# Altium integrated library TI Power Management DC-DC Controller (External Switch).IntLib: 349 symbols (part 5 of 28)
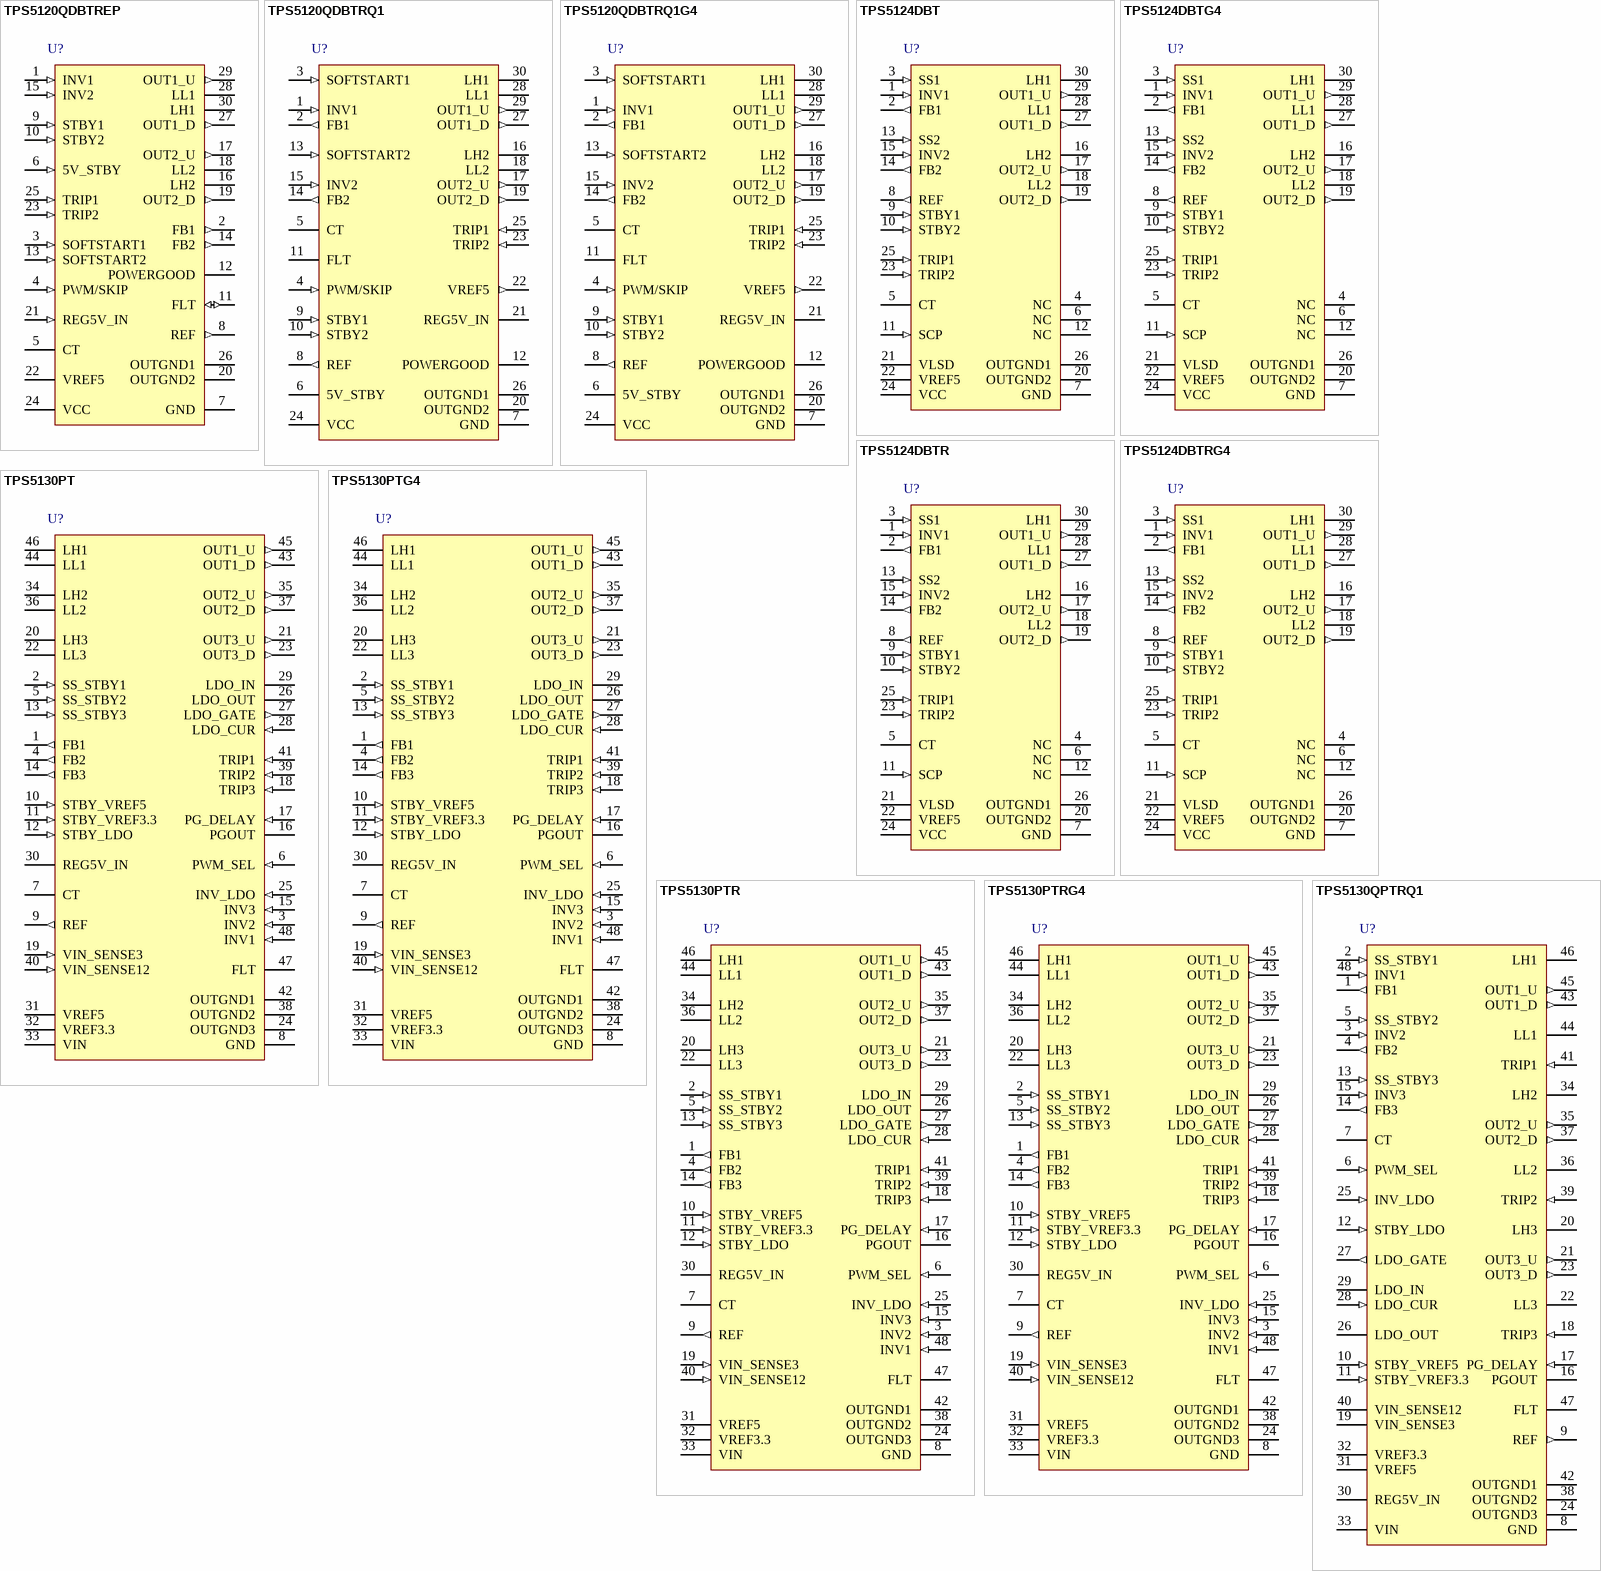
[diagram p18: symbols TPS5120QDBTREP to TPS5130QPTRQ1]

## TPS5124DBTRG4
designator U?
Dual Channel Synchronous Step-Down PWM Controller, 80 % Duty Cycle, 4.5 to 15 V, -40 to 85 degC, 30-pin TSSOP (DBT), Green (RoHS & no Sb/Br); Manufacturer: Texas Instruments; PartNumber: TPS5124DBTRG4; Duty Cycle(Max)(%): 80; Iout(Max)(A): 20; Regulated Outputs(#): 2; SubFamily: Multiple-Output Switching Controller; Switching Frequency(Max)(kHz): 500; Synchronous Rectification: TRUE; Topology: Buck; Vin(Max)(V): 15; Vin(Min)(V): 4.5; Vout(Max)(V): 12; Vout(Min)(V): 0.9; DatasheetVersion: SLUS571; PackageVersion: Sep-2005; PackageReference: DBT30; PackageDescription: 30-Pin Thin Shrink Small Outline Package 0.5 mm Pitch; Supplier 1: Digi-Key; Supplier Part Number 1: TPS5124DBTRG4-ND; Supplier 2: Newark; Supplier Part Number 2: 24K5980; Supplier 3: Mouser; Supplier Part Number 3: 595-TPS5124DBTRG4; Eco-Plan: Green (RoHS & no Sb/Br); Iout2(A): 20; Vout2(Max)(V): 12; Vout2(Min)(V): 0.9; Mounting Technology: Surface Mount; Code_JEDEC: MO-153; ComponentLink1Description: Datasheet; ComponentLink1URL: http://www.ti.com/general/docs/lit/getliterature.tsp?genericPartNumber=TPS5124&fileType=pdf; ComponentLink2Description: Package Specification; ComponentLink2URL: http://www.ti.com/litv/pdf/mpds019h
footprint DBT30_N (TSSOP, 30-Leads, Body 7.8x4.4mm, Pitch 0.5mm, IPC Medium Density)
footprint DBT30_L (TSSOP, 30-Leads, Body 7.8x4.4mm, Pitch 0.5mm, IPC High Density)
footprint DBT30_M (TSSOP, 30-Leads, Body 7.8x4.4mm, Pitch 0.5mm, IPC Low Density)
pins: 1 INV1 (in) "Inverting inputs of Channel 1 error amplifier and OVP1/UVP1 comparator.", 2 FB1 (out) "Feedback output of SBRC-Channel 1 error amplifier.", 3 SS1 (in) "Soft start control for Channel 1. Connect an external capacitor between this pin and GND to specify SOFTSTART time.", 4 NC "No connection.", 5 CT "External capacitor from CT to GND adjusts frequency of the triangle oscillator.", 6 NC "No connection.", 7 GND (power) "Signal GND.", 8 REF (out) "0.85-V reference voltage output. This 0.85-V reference voltage is used to set the output voltage and the reference for the overvoltage and undervoltage protections. This reference voltage is dropped down from the internal (See Datasheet)", 9 STBY1 (in) "Standby control input for Channel 1. It can be switched into standby mode by grounding the STBY1 pin.", 10 STBY2 (in) "Standby control input for Channel 2. It can be switched into standby mode by grounding the STBY2 pin.", 11 SCP (in) "Fault latch timer pin. An external capacitor connected between SCP and GND sets SCP enable time up.", 12 NC "No connection.", 13 SS2 (in) "Soft start control for Channel 2. Connect an external capacitor between this pin and GND to specify SOFTSTART time.", 14 FB2 (out) "Feedback output of SBRC-Channel 2 error amplifier.", 15 INV2 (in) "Inverting inputs of Channel 2 error amplifier and OVP2/UVP2 comparator.", 16 LH2 (power) "Bootstrap capacitor connection for Channel 2 high-side gate driver.", 17 OUT2_U (out) "Gate drive output for Channel 2 high-side MOSFETs.", 18 LL2 (power) "CH2 high-side gate driving return. Connect this pin to the junction of the high-side and low-side MOSFETs for floating drive configuration. This pin is also an input terminal for current comparator.", 19 OUT2_D (out) "Gate drive output for Channel 2 low-side MOSFETs.", 20 OUTGND2 (power) "Ground for Channel 2 MOSFET drivers.", 21 VLSD (power) "Supply voltage input for low side driver. Typically connected to VREF5 with R-C filter when VVCC is between 6.5V and 15V and connected to VCC with filter when VVCC is between 4.5 V and 5.5 V.", 22 VREF5 (power) "5V linear regulator output. When VVCC is between 4.5V and 5.5V should be connected to VCC.", 23 TRIP2 (in) "External resistor connection for Channel 2 output current protection control.", 24 VCC (power) "Supply voltage input", 25 TRIP1 (in) "External resistor connection for Channel 1 output current protection control.", 26 OUTGND1 (power) "Ground for Channel 1 MOSFET drivers.", 27 OUT1_D (out) "Gate drive output for Channel 1 low-side MOSFETs.", 28 LL1 (power) "CH1 high-side gate driving return. Connect this pin to the junction of the high-side and low-side MOSFETs for floating drive configuration. This pin is also an input terminal for current comparator.", 29 OUT1_U (out) "Gate drive output for Channel 1 high-side MOSFETs.", 30 LH1 (power) "Bootstrap capacitor connection for Channel 1 high-side gate driver."

## TPS5130PT
designator U?
Triple Synchronous Buck Controller with LDO Controller, 82 % Duty Cycle, 4.5 to 28 V, -40 to 85 degC, 48-pin LQFP (PT), Green (RoHS & no Sb/Br); Manufacturer: Texas Instruments; PartNumber: TPS5130PT; Duty Cycle(Max)(%): 82; Iout(Max)(A): 15; Regulated Outputs(#): 4; SubFamily: Multiple-Output Switching Controller; Switching Frequency(Max)(kHz): 500; Synchronous Rectification: TRUE; Vin(Max)(V): 28; Vin(Min)(V): 4.5; Vout(Max)(V): 5.5; Vout(Min)(V): 0.9; DatasheetVersion: SLVS426; PackageVersion: revC, Nov-1996; PackageReference: PT48; PackageDescription: 48-Pin Plastic Quad Flat Pack, 7 x 7 mm Body, 0.5 mm Pitch; Supplier 1: Digi-Key; Supplier Part Number 1: 296-15673-ND; Supplier 2: Newark; Supplier Part Number 2: 83C7639; Supplier 3: Mouser; Supplier Part Number 3: 595-TPS5130PT; Eco-Plan: Green (RoHS & no Sb/Br); Topology: Buck; Vout2(Max)(V): 5.5; Vout2(Min)(V): 0.9; Mounting Technology: Surface Mount; Code_JEDEC: MS-026; ComponentLink1Description: Datasheet; ComponentLink1URL: http://www.ti.com/general/docs/lit/getliterature.tsp?genericPartNumber=TPS5130&fileType=pdf; ComponentLink2Description: Package Specification; ComponentLink2URL: http://www.ti.com/litv/pdf/mtqf003a
footprint PT48_N (Thin QFP, 48-Leads, Body 7x7mm, Pitch 0.5mm, IPC Medium Density)
footprint PT48_L (Thin QFP, 48-Leads, Body 7x7mm, Pitch 0.5mm, IPC High Density)
footprint PT48_M (Thin QFP, 48-Leads, Body 7x7mm, Pitch 0.5mm, IPC Low Density)
pins: 1 FB1 (out) "Feedback output of SBRC-CH1 error amplifier", 2 SS_STBY1 (in) "Soft start control and stand by control for SBRC-CH1. Connect an external capacitor between this pin and GND to specify soft start time.", 3 INV2 (in) "Inverting inputs of SBRC-CH2 error amplifier, skip comparator, OVP2/UVP2 comparator and PG comparator", 4 FB2 (out) "Feedback output of SBRC-CH2 error amplifier", 5 SS_STBY2 (in) "Soft start control and stand by control for SBRC-CH2. Connect an external capacitor between this pin and GND to specify soft start time.", 6 PWM_SEL (in) "PWM or auto PWM/SKIP mode select. H : auto PWM/SKIP L : PWM fixed", 7 CT "External capacitor from CT to GND adjusts frequency of the triangle oscillator", 8 GND (power) "Signal GND", 9 REF (out) "0.85-V reference voltage output. This 0.85-V reference voltage is used to set the output voltage and the reference for the over and undervoltage protections. This reference voltage is dropped down from the internal 5-V (See Datasheet)", 10 STBY_VREF5 (in) "Standby control for 5-V linear regulator.", 11 STBY_VREF3.3 (in) "Standby control for 3.3-V linear regulator.", 12 STBY_LDO (in) "Standby control input for LDO regulator. LDO regulator can be switched into standby mode by grounding the STBY_LDO pin.", 13 SS_STBY3 (in) "Soft start control and stand by control for SBRC-CH3. Connect an external capacitor between this pin and GND to specify soft start time.", 14 FB3 (out) "Feedback output of SBRC-CH3 error amplifier", 15 INV3 (in) "Inverting inputs of SBRC-CH3 error amplifier, skip comparator, OVP3/UVP3 comparator and PG comparator", 16 PGOUT (oc) "Powergood open drain output. PG comparators monitor all SBRC’s and LDO’s over voltage and under voltage. The threshold is +/-7%. When one of the output is beyond this condition, powergood output goes low.", 17 PG_DELAY (in) "Programmable delay for Powergood. Connect an external capacitor between this pin and GND to specify time delay.", 18 TRIP3 (in) "External resistor connection for SBRC-CH3 output current protection control.", 19 VIN_SENSE3 (in) "SBRC-CH 3 supply voltage monitor for reference of current limit. Input range is 4.5 V to 28 V.", 20 LH3 (power) "Bootstrap capacitor connection for SBRC-CH3 high-side gate driver.", 21 OUT3_U (out) "Gate drive output for SBRC-CH3 high-side MOSFETs.", 22 LL3 (power) "SBRC-CH3 high-side gate driving return. Connect this pin to the junction of the high-side and low-side MOSFETs for floating drive configuration. This pin is also an input terminal for current comparator", 23 OUT3_D (out) "Gate drive output for SBRC-CH3 low-side MOSFETs", 24 OUTGND3 (power) "Ground for SBRC-CH3 MOSFETs drivers. It is connected to the current limiting comparator’s negative input.", 25 INV_LDO (in) "Inverting inputs of LDO error amplifier, OVP/UVP comparators and PG comparator.", 26 LDO_OUT (power) "LDO regulator’s output connection. If output voltage has an overshoot when output current changes high to low quickly, it absorbs electrical charge from this pin.", 27 LDO_GATE (out) "Gate control output of external MOSFET for LDO regulator", 28 LDO_CUR (in) "Current sense input of LDO regulator.", 29 LDO_IN (power) "Supply voltage input and current sense input of LDO regulator", 30 REG5V_IN (power) "External 5-V input", 31 VREF5 (power) "5-V linear regulator output.", 32 VREF3.3 (power) "3.3-V linear regulator output", 33 VIN (power) "Supply voltage input", 34 LH2 (power) "Bootstrap capacitor connection for SBRC-CH2 high-side gate driver.", 35 OUT2_U (out) "Gate drive output for SBRC-CH2 high-side MOSFETs.", 36 LL2 (power) "SBRC-CH2 high-side gate driving return. Connect this pin to the junction of the high-side and low-side MOSFETs for floating drive configuration. This pin is also an input terminal for current comparator.", 37 OUT2_D (out) "Gate drive output for SBRC-CH2 low-side MOSFETs", 38 OUTGND2 (power) "Ground for SBRC-CH2 MOSFETs drivers. It is connected to the current limiting comparator’s negative input.", 39 TRIP2 (in) "External resistor connection for SBRC-CH2 output current protection control.", 40 VIN_SENSE12 (in) "SBRC-CH1/2 supply voltage monitor for reference of current limit. Input range is 4.5 V to 28 V.", 41 TRIP1 (in) "External resistor connection for SBRC-CH1 output current protection control.", 42 OUTGND1 (power) "Ground for SBRC-CH1 MOSFETs drivers. It is connected to the current limiting comparator’s negative input.", 43 OUT1_D (out) "Gate drive output for SBRC-CH1 low-side MOSFETs", 44 LL1 (power) "SBRC-CH1 high-side gate driving return. Connect this pin to the junction of the high-side and low-side MOSFETs for floating drive configuration. This pin is also an input terminal for current comparator.", 45 OUT1_U (out) "Gate drive output for SBRC-CH1 high-side MOSFETs.", 46 LH1 (power) "Bootstrap capacitor connection for SBRC-CH1 high-side gate driver.", 47 FLT "Fault latch timer pin. An external capacitor connected between FLT and GND sets FLT enable time up.", 48 INV1 (in) "Inverting inputs of SBRC-CH1 error amplifier, skip comparator, OVP1/UVP1 comparator and PG comparator"

## TPS5130PTG4
designator U?
Triple Synchronous Buck Controller with LDO Controller, 82 % Duty Cycle, 4.5 to 28 V, -40 to 85 degC, 48-pin LQFP (PT), Green (RoHS & no Sb/Br); Manufacturer: Texas Instruments; PartNumber: TPS5130PTG4; Duty Cycle(Max)(%): 82; Iout(Max)(A): 15; Regulated Outputs(#): 4; SubFamily: Multiple-Output Switching Controller; Switching Frequency(Max)(kHz): 500; Synchronous Rectification: TRUE; Vin(Max)(V): 28; Vin(Min)(V): 4.5; Vout(Max)(V): 5.5; Vout(Min)(V): 0.9; DatasheetVersion: SLVS426; PackageVersion: revC, Nov-1996; PackageReference: PT48; PackageDescription: 48-Pin Plastic Quad Flat Pack, 7 x 7 mm Body, 0.5 mm Pitch; Supplier 1: Digi-Key; Supplier Part Number 1: TPS5130PTG4-ND; Supplier 2: Newark; Supplier Part Number 2: 54K1664; Supplier 3: Mouser; Supplier Part Number 3: 595-TPS5130PTG4; Eco-Plan: Green (RoHS & no Sb/Br); Topology: Buck; Vout2(Max)(V): 5.5; Vout2(Min)(V): 0.9; Mounting Technology: Surface Mount; Code_JEDEC: MS-026; ComponentLink1Description: Datasheet; ComponentLink1URL: http://www.ti.com/general/docs/lit/getliterature.tsp?genericPartNumber=TPS5130&fileType=pdf; ComponentLink2Description: Package Specification; ComponentLink2URL: http://www.ti.com/litv/pdf/mtqf003a
footprint PT48_N (Thin QFP, 48-Leads, Body 7x7mm, Pitch 0.5mm, IPC Medium Density)
footprint PT48_L (Thin QFP, 48-Leads, Body 7x7mm, Pitch 0.5mm, IPC High Density)
footprint PT48_M (Thin QFP, 48-Leads, Body 7x7mm, Pitch 0.5mm, IPC Low Density)
pins: 1 FB1 (out) "Feedback output of SBRC-CH1 error amplifier", 2 SS_STBY1 (in) "Soft start control and stand by control for SBRC-CH1. Connect an external capacitor between this pin and GND to specify soft start time.", 3 INV2 (in) "Inverting inputs of SBRC-CH2 error amplifier, skip comparator, OVP2/UVP2 comparator and PG comparator", 4 FB2 (out) "Feedback output of SBRC-CH2 error amplifier", 5 SS_STBY2 (in) "Soft start control and stand by control for SBRC-CH2. Connect an external capacitor between this pin and GND to specify soft start time.", 6 PWM_SEL (in) "PWM or auto PWM/SKIP mode select. H : auto PWM/SKIP L : PWM fixed", 7 CT "External capacitor from CT to GND adjusts frequency of the triangle oscillator", 8 GND (power) "Signal GND", 9 REF (out) "0.85-V reference voltage output. This 0.85-V reference voltage is used to set the output voltage and the reference for the over and undervoltage protections. This reference voltage is dropped down from the internal 5-V (See Datasheet)", 10 STBY_VREF5 (in) "Standby control for 5-V linear regulator.", 11 STBY_VREF3.3 (in) "Standby control for 3.3-V linear regulator.", 12 STBY_LDO (in) "Standby control input for LDO regulator. LDO regulator can be switched into standby mode by grounding the STBY_LDO pin.", 13 SS_STBY3 (in) "Soft start control and stand by control for SBRC-CH3. Connect an external capacitor between this pin and GND to specify soft start time.", 14 FB3 (out) "Feedback output of SBRC-CH3 error amplifier", 15 INV3 (in) "Inverting inputs of SBRC-CH3 error amplifier, skip comparator, OVP3/UVP3 comparator and PG comparator", 16 PGOUT (oc) "Powergood open drain output. PG comparators monitor all SBRC’s and LDO’s over voltage and under voltage. The threshold is +/-7%. When one of the output is beyond this condition, powergood output goes low.", 17 PG_DELAY (in) "Programmable delay for Powergood. Connect an external capacitor between this pin and GND to specify time delay.", 18 TRIP3 (in) "External resistor connection for SBRC-CH3 output current protection control.", 19 VIN_SENSE3 (in) "SBRC-CH 3 supply voltage monitor for reference of current limit. Input range is 4.5 V to 28 V.", 20 LH3 (power) "Bootstrap capacitor connection for SBRC-CH3 high-side gate driver.", 21 OUT3_U (out) "Gate drive output for SBRC-CH3 high-side MOSFETs.", 22 LL3 (power) "SBRC-CH3 high-side gate driving return. Connect this pin to the junction of the high-side and low-side MOSFETs for floating drive configuration. This pin is also an input terminal for current comparator", 23 OUT3_D (out) "Gate drive output for SBRC-CH3 low-side MOSFETs", 24 OUTGND3 (power) "Ground for SBRC-CH3 MOSFETs drivers. It is connected to the current limiting comparator’s negative input.", 25 INV_LDO (in) "Inverting inputs of LDO error amplifier, OVP/UVP comparators and PG comparator.", 26 LDO_OUT (power) "LDO regulator’s output connection. If output voltage has an overshoot when output current changes high to low quickly, it absorbs electrical charge from this pin.", 27 LDO_GATE (out) "Gate control output of external MOSFET for LDO regulator", 28 LDO_CUR (in) "Current sense input of LDO regulator.", 29 LDO_IN (power) "Supply voltage input and current sense input of LDO regulator", 30 REG5V_IN (power) "External 5-V input", 31 VREF5 (power) "5-V linear regulator output.", 32 VREF3.3 (power) "3.3-V linear regulator output", 33 VIN (power) "Supply voltage input", 34 LH2 (power) "Bootstrap capacitor connection for SBRC-CH2 high-side gate driver.", 35 OUT2_U (out) "Gate drive output for SBRC-CH2 high-side MOSFETs.", 36 LL2 (power) "SBRC-CH2 high-side gate driving return. Connect this pin to the junction of the high-side and low-side MOSFETs for floating drive configuration. This pin is also an input terminal for current comparator.", 37 OUT2_D (out) "Gate drive output for SBRC-CH2 low-side MOSFETs", 38 OUTGND2 (power) "Ground for SBRC-CH2 MOSFETs drivers. It is connected to the current limiting comparator’s negative input.", 39 TRIP2 (in) "External resistor connection for SBRC-CH2 output current protection control.", 40 VIN_SENSE12 (in) "SBRC-CH1/2 supply voltage monitor for reference of current limit. Input range is 4.5 V to 28 V.", 41 TRIP1 (in) "External resistor connection for SBRC-CH1 output current protection control.", 42 OUTGND1 (power) "Ground for SBRC-CH1 MOSFETs drivers. It is connected to the current limiting comparator’s negative input.", 43 OUT1_D (out) "Gate drive output for SBRC-CH1 low-side MOSFETs", 44 LL1 (power) "SBRC-CH1 high-side gate driving return. Connect this pin to the junction of the high-side and low-side MOSFETs for floating drive configuration. This pin is also an input terminal for current comparator.", 45 OUT1_U (out) "Gate drive output for SBRC-CH1 high-side MOSFETs.", 46 LH1 (power) "Bootstrap capacitor connection for SBRC-CH1 high-side gate driver.", 47 FLT "Fault latch timer pin. An external capacitor connected between FLT and GND sets FLT enable time up.", 48 INV1 (in) "Inverting inputs of SBRC-CH1 error amplifier, skip comparator, OVP1/UVP1 comparator and PG comparator"

## TPS5130PTR
designator U?
Triple Synchronous Buck Controller with LDO Controller, 82 % Duty Cycle, 4.5 to 28 V, -40 to 85 degC, 48-pin LQFP (PT), Green (RoHS & no Sb/Br); Manufacturer: Texas Instruments; PartNumber: TPS5130PTR; Duty Cycle(Max)(%): 82; Iout(Max)(A): 15; Regulated Outputs(#): 4; SubFamily: Multiple-Output Switching Controller; Switching Frequency(Max)(kHz): 500; Synchronous Rectification: TRUE; Vin(Max)(V): 28; Vin(Min)(V): 4.5; Vout(Max)(V): 5.5; Vout(Min)(V): 0.9; DatasheetVersion: SLVS426; PackageVersion: revC, Nov-1996; PackageReference: PT48; PackageDescription: 48-Pin Plastic Quad Flat Pack, 7 x 7 mm Body, 0.5 mm Pitch; Supplier 1: Digi-Key; Supplier Part Number 1: 296-26980-2-ND; Supplier 2: Digi-Key; Supplier Part Number 2: 296-26980-1-ND; Supplier 3: Digi-Key; Supplier Part Number 3: 296-26980-6-ND; Supplier 4: Newark; Supplier Part Number 4: 83C7640; Supplier 5: Mouser; Supplier Part Number 5: 595-TPS5130PTR; Eco-Plan: Green (RoHS & no Sb/Br); Topology: Buck; Vout2(Max)(V): 5.5; Vout2(Min)(V): 0.9; Mounting Technology: Surface Mount; Code_JEDEC: MS-026; ComponentLink1Description: Datasheet; ComponentLink1URL: http://www.ti.com/general/docs/lit/getliterature.tsp?genericPartNumber=TPS5130&fileType=pdf; ComponentLink2Description: Package Specification; ComponentLink2URL: http://www.ti.com/litv/pdf/mtqf003a
footprint PT48_N (Thin QFP, 48-Leads, Body 7x7mm, Pitch 0.5mm, IPC Medium Density)
footprint PT48_L (Thin QFP, 48-Leads, Body 7x7mm, Pitch 0.5mm, IPC High Density)
footprint PT48_M (Thin QFP, 48-Leads, Body 7x7mm, Pitch 0.5mm, IPC Low Density)
pins: 1 FB1 (out) "Feedback output of SBRC-CH1 error amplifier", 2 SS_STBY1 (in) "Soft start control and stand by control for SBRC-CH1. Connect an external capacitor between this pin and GND to specify soft start time.", 3 INV2 (in) "Inverting inputs of SBRC-CH2 error amplifier, skip comparator, OVP2/UVP2 comparator and PG comparator", 4 FB2 (out) "Feedback output of SBRC-CH2 error amplifier", 5 SS_STBY2 (in) "Soft start control and stand by control for SBRC-CH2. Connect an external capacitor between this pin and GND to specify soft start time.", 6 PWM_SEL (in) "PWM or auto PWM/SKIP mode select. H : auto PWM/SKIP L : PWM fixed", 7 CT "External capacitor from CT to GND adjusts frequency of the triangle oscillator", 8 GND (power) "Signal GND", 9 REF (out) "0.85-V reference voltage output. This 0.85-V reference voltage is used to set the output voltage and the reference for the over and undervoltage protections. This reference voltage is dropped down from the internal 5-V (See Datasheet)", 10 STBY_VREF5 (in) "Standby control for 5-V linear regulator.", 11 STBY_VREF3.3 (in) "Standby control for 3.3-V linear regulator.", 12 STBY_LDO (in) "Standby control input for LDO regulator. LDO regulator can be switched into standby mode by grounding the STBY_LDO pin.", 13 SS_STBY3 (in) "Soft start control and stand by control for SBRC-CH3. Connect an external capacitor between this pin and GND to specify soft start time.", 14 FB3 (out) "Feedback output of SBRC-CH3 error amplifier", 15 INV3 (in) "Inverting inputs of SBRC-CH3 error amplifier, skip comparator, OVP3/UVP3 comparator and PG comparator", 16 PGOUT (oc) "Powergood open drain output. PG comparators monitor all SBRC’s and LDO’s over voltage and under voltage. The threshold is +/-7%. When one of the output is beyond this condition, powergood output goes low.", 17 PG_DELAY (in) "Programmable delay for Powergood. Connect an external capacitor between this pin and GND to specify time delay.", 18 TRIP3 (in) "External resistor connection for SBRC-CH3 output current protection control.", 19 VIN_SENSE3 (in) "SBRC-CH 3 supply voltage monitor for reference of current limit. Input range is 4.5 V to 28 V.", 20 LH3 (power) "Bootstrap capacitor connection for SBRC-CH3 high-side gate driver.", 21 OUT3_U (out) "Gate drive output for SBRC-CH3 high-side MOSFETs.", 22 LL3 (power) "SBRC-CH3 high-side gate driving return. Connect this pin to the junction of the high-side and low-side MOSFETs for floating drive configuration. This pin is also an input terminal for current comparator", 23 OUT3_D (out) "Gate drive output for SBRC-CH3 low-side MOSFETs", 24 OUTGND3 (power) "Ground for SBRC-CH3 MOSFETs drivers. It is connected to the current limiting comparator’s negative input.", 25 INV_LDO (in) "Inverting inputs of LDO error amplifier, OVP/UVP comparators and PG comparator.", 26 LDO_OUT (power) "LDO regulator’s output connection. If output voltage has an overshoot when output current changes high to low quickly, it absorbs electrical charge from this pin.", 27 LDO_GATE (out) "Gate control output of external MOSFET for LDO regulator", 28 LDO_CUR (in) "Current sense input of LDO regulator.", 29 LDO_IN (power) "Supply voltage input and current sense input of LDO regulator", 30 REG5V_IN (power) "External 5-V input", 31 VREF5 (power) "5-V linear regulator output.", 32 VREF3.3 (power) "3.3-V linear regulator output", 33 VIN (power) "Supply voltage input", 34 LH2 (power) "Bootstrap capacitor connection for SBRC-CH2 high-side gate driver.", 35 OUT2_U (out) "Gate drive output for SBRC-CH2 high-side MOSFETs.", 36 LL2 (power) "SBRC-CH2 high-side gate driving return. Connect this pin to the junction of the high-side and low-side MOSFETs for floating drive configuration. This pin is also an input terminal for current comparator.", 37 OUT2_D (out) "Gate drive output for SBRC-CH2 low-side MOSFETs", 38 OUTGND2 (power) "Ground for SBRC-CH2 MOSFETs drivers. It is connected to the current limiting comparator’s negative input.", 39 TRIP2 (in) "External resistor connection for SBRC-CH2 output current protection control.", 40 VIN_SENSE12 (in) "SBRC-CH1/2 supply voltage monitor for reference of current limit. Input range is 4.5 V to 28 V.", 41 TRIP1 (in) "External resistor connection for SBRC-CH1 output current protection control.", 42 OUTGND1 (power) "Ground for SBRC-CH1 MOSFETs drivers. It is connected to the current limiting comparator’s negative input.", 43 OUT1_D (out) "Gate drive output for SBRC-CH1 low-side MOSFETs", 44 LL1 (power) "SBRC-CH1 high-side gate driving return. Connect this pin to the junction of the high-side and low-side MOSFETs for floating drive configuration. This pin is also an input terminal for current comparator.", 45 OUT1_U (out) "Gate drive output for SBRC-CH1 high-side MOSFETs.", 46 LH1 (power) "Bootstrap capacitor connection for SBRC-CH1 high-side gate driver.", 47 FLT "Fault latch timer pin. An external capacitor connected between FLT and GND sets FLT enable time up.", 48 INV1 (in) "Inverting inputs of SBRC-CH1 error amplifier, skip comparator, OVP1/UVP1 comparator and PG comparator"

## TPS5130PTRG4
designator U?
Triple Synchronous Buck Controller with LDO Controller, 82 % Duty Cycle, 4.5 to 28 V, -40 to 85 degC, 48-pin LQFP (PT), Green (RoHS & no Sb/Br); Manufacturer: Texas Instruments; PartNumber: TPS5130PTRG4; Duty Cycle(Max)(%): 82; Iout(Max)(A): 15; Regulated Outputs(#): 4; SubFamily: Multiple-Output Switching Controller; Switching Frequency(Max)(kHz): 500; Synchronous Rectification: TRUE; Vin(Max)(V): 28; Vin(Min)(V): 4.5; Vout(Max)(V): 5.5; Vout(Min)(V): 0.9; DatasheetVersion: SLVS426; PackageVersion: revC, Nov-1996; PackageReference: PT48; PackageDescription: 48-Pin Plastic Quad Flat Pack, 7 x 7 mm Body, 0.5 mm Pitch; Supplier 1: Digi-Key; Supplier Part Number 1: TPS5130PTRG4-ND; Supplier 2: Newark; Supplier Part Number 2: 71J8162; Supplier 3: Mouser; Supplier Part Number 3: 595-TPS5130PTRG4; Eco-Plan: Green (RoHS & no Sb/Br); Topology: Buck; Vout2(Max)(V): 5.5; Vout2(Min)(V): 0.9; Mounting Technology: Surface Mount; Code_JEDEC: MS-026; ComponentLink1Description: Datasheet; ComponentLink1URL: http://www.ti.com/general/docs/lit/getliterature.tsp?genericPartNumber=TPS5130&fileType=pdf; ComponentLink2Description: Package Specification; ComponentLink2URL: http://www.ti.com/litv/pdf/mtqf003a
footprint PT48_N (Thin QFP, 48-Leads, Body 7x7mm, Pitch 0.5mm, IPC Medium Density)
footprint PT48_L (Thin QFP, 48-Leads, Body 7x7mm, Pitch 0.5mm, IPC High Density)
footprint PT48_M (Thin QFP, 48-Leads, Body 7x7mm, Pitch 0.5mm, IPC Low Density)
pins: 1 FB1 (out) "Feedback output of SBRC-CH1 error amplifier", 2 SS_STBY1 (in) "Soft start control and stand by control for SBRC-CH1. Connect an external capacitor between this pin and GND to specify soft start time.", 3 INV2 (in) "Inverting inputs of SBRC-CH2 error amplifier, skip comparator, OVP2/UVP2 comparator and PG comparator", 4 FB2 (out) "Feedback output of SBRC-CH2 error amplifier", 5 SS_STBY2 (in) "Soft start control and stand by control for SBRC-CH2. Connect an external capacitor between this pin and GND to specify soft start time.", 6 PWM_SEL (in) "PWM or auto PWM/SKIP mode select. H : auto PWM/SKIP L : PWM fixed", 7 CT "External capacitor from CT to GND adjusts frequency of the triangle oscillator", 8 GND (power) "Signal GND", 9 REF (out) "0.85-V reference voltage output. This 0.85-V reference voltage is used to set the output voltage and the reference for the over and undervoltage protections. This reference voltage is dropped down from the internal 5-V (See Datasheet)", 10 STBY_VREF5 (in) "Standby control for 5-V linear regulator.", 11 STBY_VREF3.3 (in) "Standby control for 3.3-V linear regulator.", 12 STBY_LDO (in) "Standby control input for LDO regulator. LDO regulator can be switched into standby mode by grounding the STBY_LDO pin.", 13 SS_STBY3 (in) "Soft start control and stand by control for SBRC-CH3. Connect an external capacitor between this pin and GND to specify soft start time.", 14 FB3 (out) "Feedback output of SBRC-CH3 error amplifier", 15 INV3 (in) "Inverting inputs of SBRC-CH3 error amplifier, skip comparator, OVP3/UVP3 comparator and PG comparator", 16 PGOUT (oc) "Powergood open drain output. PG comparators monitor all SBRC’s and LDO’s over voltage and under voltage. The threshold is +/-7%. When one of the output is beyond this condition, powergood output goes low.", 17 PG_DELAY (in) "Programmable delay for Powergood. Connect an external capacitor between this pin and GND to specify time delay.", 18 TRIP3 (in) "External resistor connection for SBRC-CH3 output current protection control.", 19 VIN_SENSE3 (in) "SBRC-CH 3 supply voltage monitor for reference of current limit. Input range is 4.5 V to 28 V.", 20 LH3 (power) "Bootstrap capacitor connection for SBRC-CH3 high-side gate driver.", 21 OUT3_U (out) "Gate drive output for SBRC-CH3 high-side MOSFETs.", 22 LL3 (power) "SBRC-CH3 high-side gate driving return. Connect this pin to the junction of the high-side and low-side MOSFETs for floating drive configuration. This pin is also an input terminal for current comparator", 23 OUT3_D (out) "Gate drive output for SBRC-CH3 low-side MOSFETs", 24 OUTGND3 (power) "Ground for SBRC-CH3 MOSFETs drivers. It is connected to the current limiting comparator’s negative input.", 25 INV_LDO (in) "Inverting inputs of LDO error amplifier, OVP/UVP comparators and PG comparator.", 26 LDO_OUT (power) "LDO regulator’s output connection. If output voltage has an overshoot when output current changes high to low quickly, it absorbs electrical charge from this pin.", 27 LDO_GATE (out) "Gate control output of external MOSFET for LDO regulator", 28 LDO_CUR (in) "Current sense input of LDO regulator.", 29 LDO_IN (power) "Supply voltage input and current sense input of LDO regulator", 30 REG5V_IN (power) "External 5-V input", 31 VREF5 (power) "5-V linear regulator output.", 32 VREF3.3 (power) "3.3-V linear regulator output", 33 VIN (power) "Supply voltage input", 34 LH2 (power) "Bootstrap capacitor connection for SBRC-CH2 high-side gate driver.", 35 OUT2_U (out) "Gate drive output for SBRC-CH2 high-side MOSFETs.", 36 LL2 (power) "SBRC-CH2 high-side gate driving return. Connect this pin to the junction of the high-side and low-side MOSFETs for floating drive configuration. This pin is also an input terminal for current comparator.", 37 OUT2_D (out) "Gate drive output for SBRC-CH2 low-side MOSFETs", 38 OUTGND2 (power) "Ground for SBRC-CH2 MOSFETs drivers. It is connected to the current limiting comparator’s negative input.", 39 TRIP2 (in) "External resistor connection for SBRC-CH2 output current protection control.", 40 VIN_SENSE12 (in) "SBRC-CH1/2 supply voltage monitor for reference of current limit. Input range is 4.5 V to 28 V.", 41 TRIP1 (in) "External resistor connection for SBRC-CH1 output current protection control.", 42 OUTGND1 (power) "Ground for SBRC-CH1 MOSFETs drivers. It is connected to the current limiting comparator’s negative input.", 43 OUT1_D (out) "Gate drive output for SBRC-CH1 low-side MOSFETs", 44 LL1 (power) "SBRC-CH1 high-side gate driving return. Connect this pin to the junction of the high-side and low-side MOSFETs for floating drive configuration. This pin is also an input terminal for current comparator.", 45 OUT1_U (out) "Gate drive output for SBRC-CH1 high-side MOSFETs.", 46 LH1 (power) "Bootstrap capacitor connection for SBRC-CH1 high-side gate driver.", 47 FLT "Fault latch timer pin. An external capacitor connected between FLT and GND sets FLT enable time up.", 48 INV1 (in) "Inverting inputs of SBRC-CH1 error amplifier, skip comparator, OVP1/UVP1 comparator and PG comparator"

## TPS5130QPTRQ1
designator U?
Automotive Catalog Triple Synchronous Buck Controller with LDO Controller, 82 % Duty Cycle, 4.5 to 28 V, -40 to 125 degC, 48-pin LQFP (PT), Green (RoHS & no Sb/Br); Manufacturer: Texas Instruments; PartNumber: TPS5130QPTRQ1; Duty Cycle(Max)(%): 82; Regulated Outputs(#): 4; SubFamily: Step-Down Controller; Switching Frequency(Max)(kHz): 500; Vin(Max)(V): 28; Vin(Min)(V): 4.5; Vout(Max)(V): 5.5; Vout(Min)(V): 0.9; DatasheetVersion: SLVS866; PackageVersion: revC, Nov-1996; PackageReference: PT48; PackageDescription: 48-Pin Plastic Quad Flat Pack, 7 x 7 mm Body, 0.5 mm Pitch; Supplier 1: Digi-Key; Supplier Part Number 1: 296-24319-2-ND; Supplier 2: Digi-Key; Supplier Part Number 2: 296-24319-1-ND; Supplier 3: Digi-Key; Supplier Part Number 3: 296-24319-6-ND; Supplier 4: Newark; Supplier Part Number 4: 09R6652; Supplier 5: Mouser; Supplier Part Number 5: 595-TPS5130QPTRQ1; Eco-Plan: Green (RoHS & no Sb/Br); Topology: Buck; Mounting Technology: Surface Mount; Code_JEDEC: MS-026; ComponentLink1Description: Datasheet; ComponentLink1URL: http://www.ti.com/general/docs/lit/getliterature.tsp?genericPartNumber=TPS5130-Q1&fileType=pdf; ComponentLink2Description: Package Specification; ComponentLink2URL: http://www.ti.com/litv/pdf/mtqf003a
footprint PT48_N (Thin QFP, 48-Leads, Body 7x7mm, Pitch 0.5mm, IPC Medium Density)
footprint PT48_L (Thin QFP, 48-Leads, Body 7x7mm, Pitch 0.5mm, IPC High Density)
footprint PT48_M (Thin QFP, 48-Leads, Body 7x7mm, Pitch 0.5mm, IPC Low Density)
pins: 1 FB1 (out) "Feedback output of SBRC-CH1 error amplifier", 2 SS_STBY1 (in) "Soft start control and stand by control for SBRC-CH1. Connect an external capacitor between this pin and GND to specify soft start time.", 3 INV2 (in) "Inverting input of SBRC-CH2 error amplifier, skip comparator, OVP2/UVP2 comparator, and PG comparator", 4 FB2 (out) "Feedback output of SBRC-CH2 error amplifier", 5 SS_STBY2 (in) "Soft start control and stand by control for SBRC-CH2. Connect an external capacitor between this pin and GND to specify soft start time.", 6 PWM_SEL (in) "PWM or auto PWM/SKIP mode select H= Auto PWM/SKIP L = PWM fixed", 7 CT "External capacitor from CT to GND adjusts frequency of the triangle oscillator", 8 GND (power) "Signal GND", 9 REF (out) "0.85-V reference voltage output. This 0.85-V reference voltage is used to set the output voltage and the reference for the over and undervoltage protections. This reference voltage is dropped down from the internal 5-V (See Datasheet)", 10 STBY_VREF5 (in) "Standby control for 5-V linear regulator", 11 STBY_VREF3.3 (in) "Standby control for 3.3-V linear regulator", 12 STBY_LDO (in) "Standby control input for LDO regulator. LDO regulator can be switched into standby mode by grounding the STBY_LDO pin.", 13 SS_STBY3 (in) "Soft start control and stand by control for SBRC-CH3. Connect an external capacitor between this pin and GND to specify soft start time.", 14 FB3 (out) "Feedback output of SBRC-CH3 error amplifier", 15 INV3 (in) "Inverting input of SBRC-CH3 error amplifier, skip comparator, OVP3/UVP3 comparator, and PG comparator", 16 PGOUT (oc) "Power good open-drain output. PG comparators monitor all SBRCs and LDOs overvoltage and  undervoltage status. The threshold is +/-7%. When one of the outputs is beyond this condition,PGOUT goes low.", 17 PG_DELAY (in) "Programmable delay for PGOUT. Connect an external capacitor between this pin and GND to specify time delay.", 18 TRIP3 (in) "External resistor connection for SBRC-CH3 output current protection control", 19 VIN_SENSE3 (power) "SBRC-CH 3 supply voltage monitor for reference of current limit. Input range is 4.5 V to 28 V.", 20 LH3 (power) "Bootstrap capacitor connection for SBRC-CH3 high-side gate driver", 21 OUT3_U (out) "Gate drive output for SBRC-CH3 high-side MOSFETs", 22 LL3 (power) "SBRC-CH3 high-side gate driving return. Connect this pin to the junction of the high-side and low-side MOSFETs for floating drive configuration. This pin is also an input terminal for current comparator.", 23 OUT3_D (out) "Gate drive output for SBRC-CH3 low-side MOSFETs", 24 OUTGND3 (power) "Ground for SBRC-CH3 MOSFETs drivers. It is connected to the current limiting comparator's negative input.", 25 INV_LDO (in) "Inverting input of LDO error amplifier, OVP/UVP comparators, and PG comparator", 26 LDO_OUT (power) "LDO regulator output. If output voltage has an overshoot when output current changes high to low quickly, it absorbs electrical charge from this pin.", 27 LDO_GATE (out) "Gate control output of external MOSFET for LDO regulator", 28 LDO_CUR (in) "Current sense input of LDO regulator", 29 LDO_IN (power) "Supply voltage input and current sense input of LDO regulator", 30 REG5V_IN (power) "External 5-V input", 31 VREF5 (power) "5-V linear regulator output", 32 VREF3.3 (power) "3.3-V linear regulator output", 33 VIN (power) "Supply voltage input", 34 LH2 (power) "Bootstrap capacitor connection for SBRC-CH2 high-side gate driver", 35 OUT2_U (out) "Gate drive output for SBRC-CH2 high-side MOSFETs", 36 LL2 (power) "SBRC-CH2 high-side gate driving return. Connect this pin to the junction of the high-side and low-side MOSFETs for floating drive configuration. This pin is also an input terminal for current comparator.", 37 OUT2_D (out) "Gate drive output for SBRC-CH2 low-side MOSFETs", 38 OUTGND2 (power) "Ground for SBRC-CH2 MOSFETs drivers. It is connected to the current limiting comparator's negative input.", 39 TRIP2 (in) "External resistor connection for SBRC-CH2 output current protection control", 40 VIN_SENSE12 (power) "SBRC-CH1/2 supply voltage monitor for reference of current limit. Input range is 4.5 V to 28 V.", 41 TRIP1 (in) "External resistor connection for SBRC-CH1 output current protection control", 42 OUTGND1 (power) "Ground for SBRC-CH1 MOSFETs drivers. It is connected to the current limiting comparator's negative input.", 43 OUT1_D (out) "Gate drive output for SBRC-CH1 low-side MOSFETs", 44 LL1 (power) "SBRC-CH1 high-side gate driving return. Connect this pin to the junction of the high-side and low-side MOSFETs for floating drive configuration. This pin is also an input terminal for current comparator.", 45 OUT1_U (out) "Gate drive output for SBRC-CH1 high-side MOSFETs", 46 LH1 (power) "Bootstrap capacitor connection for SBRC-CH1 high-side gate driver", 47 FLT "Fault latch timer pin. An external capacitor connected between FLT and GND sets FLT enable time up.", 48 INV1 (in) "Inverting input of SBRC-CH1 error amplifier, skip comparator, OVP1/UVP1 comparator, and PG comparator"

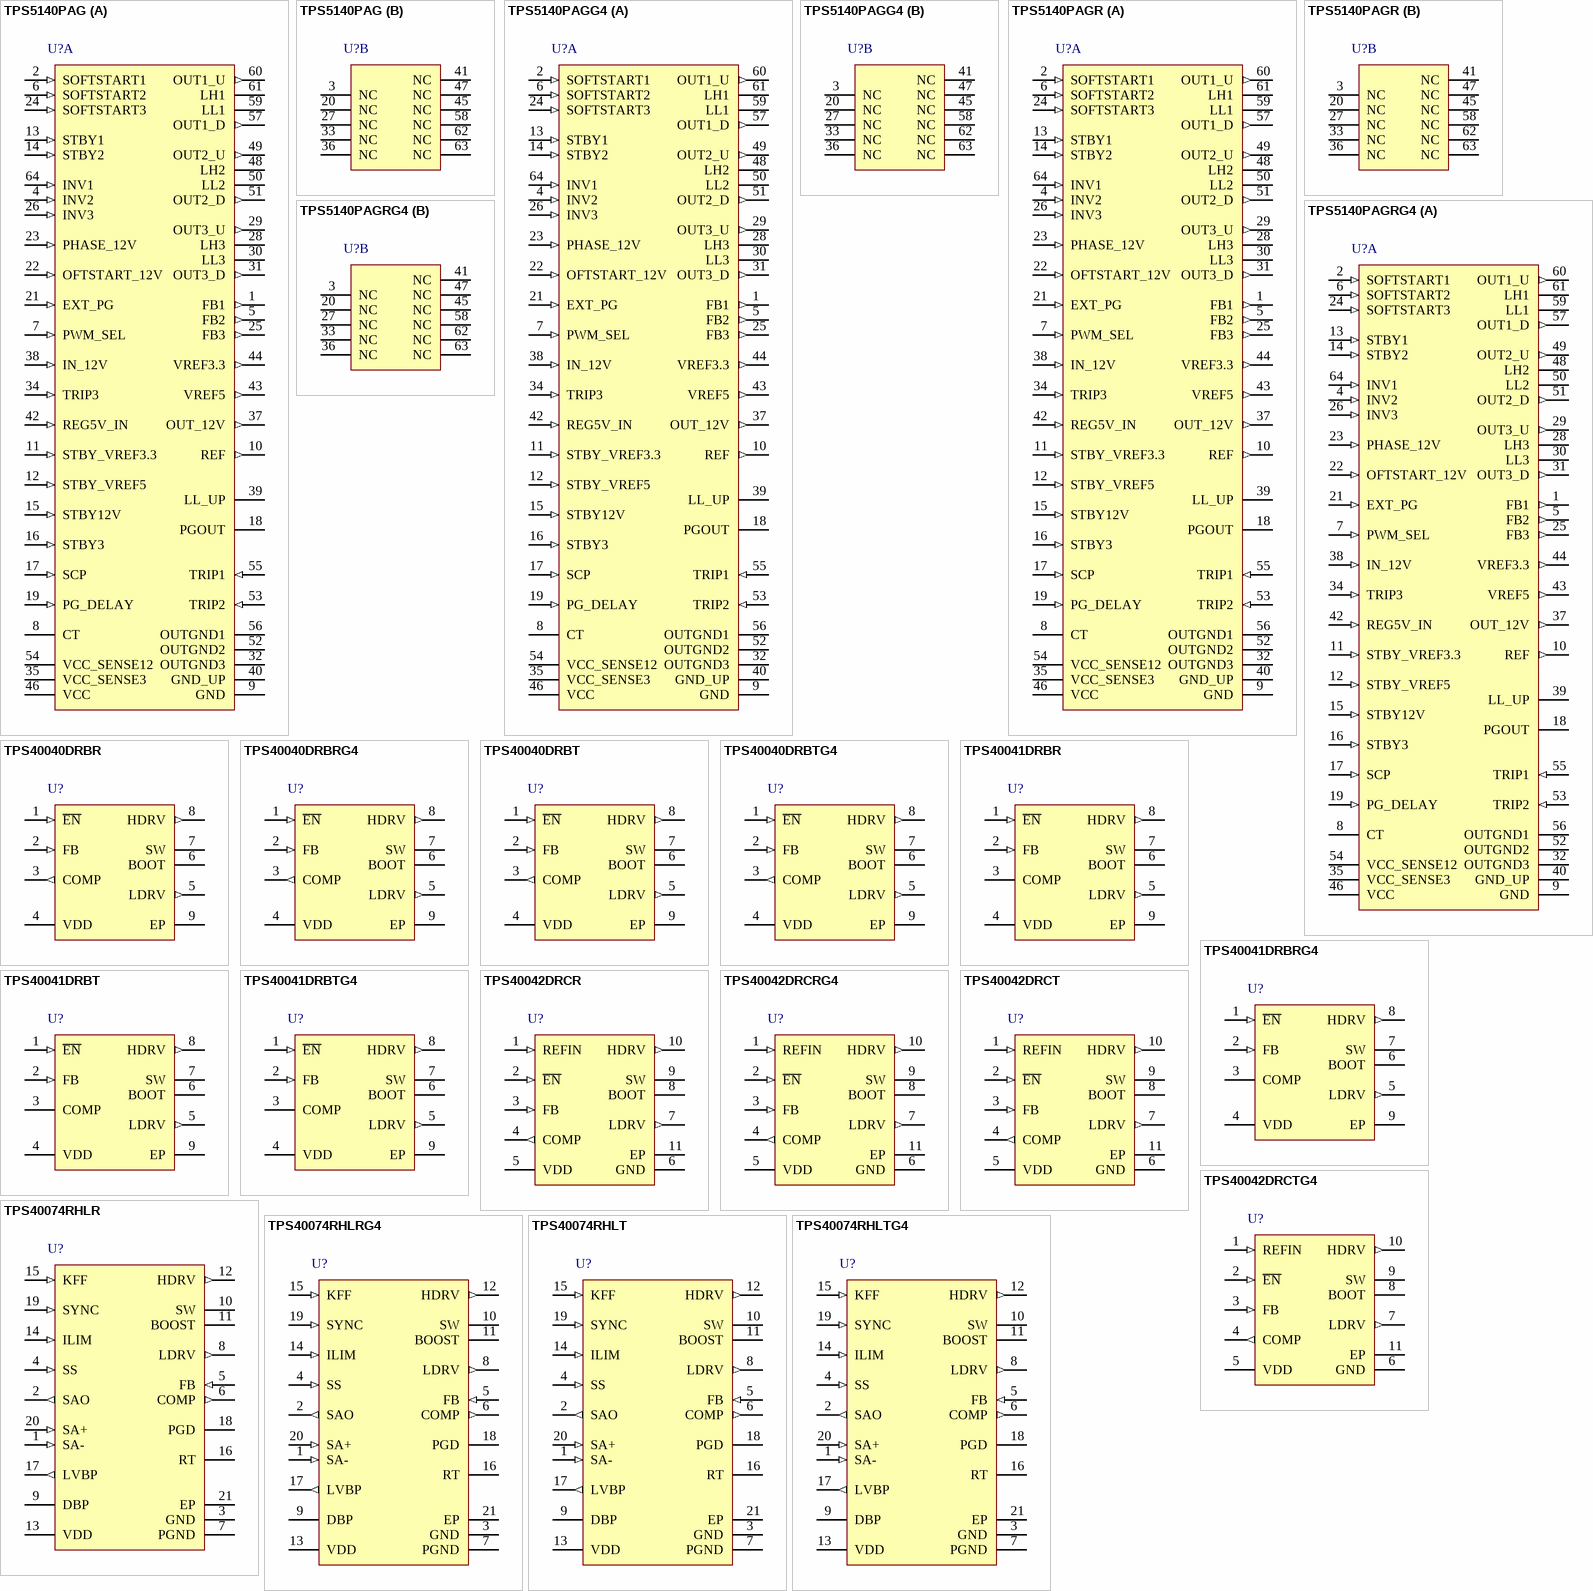
[diagram p4: symbols TPS5140PAG to TPS40074RHLTG4]

## TPS5140PAG
designator U?
Quad Output (3 Buck, 1 Boost) High Efficiency DC / DC Controller for Notebook PC Power, 75 % Duty Cycle, 4.5 to 28 V, -20 to 85 degC, 64-pin TQFP (PAG), Green (RoHS & no Sb/Br); Manufacturer: Texas Instruments; PartNumber: TPS5140PAG; Duty Cycle(Max)(%): 75; Iout(Max)(A): 20; Regulated Outputs(#): 4; SubFamily: Multiple-Output Switching Controller; Switching Frequency(Max)(kHz): 350; Synchronous Rectification: TRUE; Vin(Max)(V): 28; Vin(Min)(V): 4.5; Vout(Max)(V): 26; Vout(Min)(V): 1.2; DatasheetVersion: SLVS305A; PackageVersion: Dec-1996; PackageReference: PAG64; PackageDescription: 64-Pin Thin Quad Flat Pack 0.5 mm Pitch; Supplier 1: Digi-Key; Supplier Part Number 1: 296-12364-ND; Supplier 2: Mouser; Supplier Part Number 2: 595-TPS5140PAG; Eco-Plan: Green (RoHS & no Sb/Br); Iout2(A): 20; Topology: Buck; Vout2(Max)(V): 26; Vout2(Min)(V): 1.2; Mounting Technology: Surface Mount; Code_JEDEC: MS-026; ComponentLink1Description: Datasheet; ComponentLink1URL: http://www.ti.com/general/docs/lit/getliterature.tsp?genericPartNumber=TPS5140&fileType=pdf; ComponentLink2Description: Package Specification; ComponentLink2URL: http://www.ti.com/litv/pdf/mtqf006a
footprint PAG64_N (Thin QFP, 64-Leads, Body 10x10mm, Pitch 0.5mm, IPC Medium Density)
footprint PAG64_L (Thin QFP, 64-Leads, Body 10x10mm, Pitch 0.5mm, IPC High Density)
footprint PAG64_M (Thin QFP, 64-Leads, Body 10x10mm, Pitch 0.5mm, IPC Low Density)
part A pins: 1 FB1 (out) "Feedback output of CH1 error amplifier.", 2 SOFTSTART1 (in) "External capacitor from SOFTSTART1 to GND for CH1 soft starts control.", 4 INV2 (in) "Inverting input of CH1 error amplifier, skip comparator and OVP2/UVP2, PG comparator.", 5 FB2 (out) "Feedback output of CH2 error amplifier.", 6 SOFTSTART2 (in) "External capacitor from SOFTSTART2 to GND for CH2 soft starts control.", 7 PWM_SEL (in) "PWM or auto PWM/SKIP modes select. L: PWM fixed  H: auto PWM/SKIP", 8 CT "External capacitor from Ct to GND used for adjusting the triangle oscillator.", 9 GND (power) "Control GND.", 10 REF (out) "1.185 V reference voltage output.", 11 STBY_VREF3.3 (in) "Stand by control for 3.3-V linear regulator.", 12 STBY_VREF5 (in) "Stand by control for 5-V linear regulator.", 13 STBY1 (in) "Stand by control for CH1.", 14 STBY2 (in) "Stand by control for CH2.", 15 STBY12V (in) "Stand by control for 12-V boost converter.", 16 STBY3 (in) "Stand by control for CH3.", 17 SCP (in) "Short circuit protection terminal. An external capacitor is connected between SCP and GND to set the SCP enable time up.", 18 PGOUT (oc) "Open drain output for power good signal.", 19 PG_DELAY (in) "Programmable delay for power good. Connect to the external capacitor for timer delay.", 21 EXT_PG (in) "External power good signal input.", 22 OFTSTART_12V (in) "External capacitor from SOFTSTART_12V to GND for CH4 (12-V boost converter) soft starts control.", 23 PHASE_12V (in) "Phase compensation for the12-V boost converter. Connect to an external capacitor. But normally it is not connected.", 24 SOFTSTART3 (in) "External capacitor from SOFTSTART3 to GND for CH3 soft starts control.", 25 FB3 (out) "Feedback output of CH3 error amplifier.", 26 INV3 (in) "Inverting input of CH1 error amplifier, skip comparator and OVP3/UVP3, PG comparator.", 28 LH3 (power) "Bootstrap capacitor connection for CH3 high side gate drive.", 29 OUT3_U (out) "Gate drive output for CH3 high side switching FETs.", 30 LL3 (power) "Bootstrap low for CH3 high side gate driving return and output current protection. Connect to the junction of the high side and low side FETs for floating drive configuration.", 31 OUT3_D (out) "Gate drive output for CH3 low side gate drive.", 32 OUTGND3 (power) "Ground for CH3 FETs drivers. It is connected to the one of current limiting comparator input.", 34 TRIP3 (in) "External resistor connection for CH3 output current protection control.", 35 VCC_SENSE3 (power) "Supply voltage input and input voltage terminal for CH3 output current sense.", 37 OUT_12V (out) "Output of PMOS switch for 12-V boost output. Connect to the output capacitor for 12-V boost output.", 38 IN_12V (in) "Input of PMOS switch for 12-V boost output. Connecting to cathode of the external Schottky diode.", 39 LL_UP (oc) "Open drain output of internal NMOS switch for 12-V boost converter. Connect between external inductor and the anode of the schottky diode.", 40 GND_UP (power) "Ground for 12-V boost converter.", 42 REG5V_IN (in) "External 5 V input.", 43 VREF5 (out) "5-V linear regulator output.", 44 VREF3.3 (out) "3.3-V linear regulator output.", 46 VCC (power) "Supply voltage input.", 48 LH2 (power) "Bootstrap capacitor connection for CH2 high side gate drive.", 49 OUT2_U (out) "Gate drive output for CH2 high side switching FETs.", 50 LL2 (power) "Bootstrap low for CH2 high side gate driving return and output current protection. Connect to the junction of the high side and low side FETs for floating drive configuration.", 51 OUT2_D (out) "Gate drive output for CH2 low side gate drive.", 52 OUTGND2 (power) "Ground for CH2 FETs drivers. It is connected to one of current limiting comparator input.", 53 TRIP2 (in) "External resistor connection for CH2 output current protection control.", 54 VCC_SENSE12 (power) "Supply voltage input and input voltage terminal for CH1/2 output current sense.", 55 TRIP1 (in) "External resistor connection for CH1 output current protection control.", 56 OUTGND1 (power) "Ground for CH1 FETs drivers. It is connected to one of the current limiting comparator input.", 57 OUT1_D (out) "Gate drive output for CH1 low side gate drive.", 59 LL1 (power) "Bootstrap low for CH1 high side gate driving return and output current protection. Connect to the junction of the high side and low side FETs for floating drive configuration.", 60 OUT1_U (out) "Gate drive output for CH1 high side switching FETs.", 61 LH1 (power) "Bootstrap capacitor connection for CH1 high side gate drive.", 64 INV1 (in) "Inverting input of CH1 error amplifier, skip comparator and OVP1/UVP1, PG comparator."
part B pins: 3 NC "No connect.", 20 NC "No connect.", 27 NC "No connect.", 33 NC "No connect.", 36 NC "No connect.", 41 NC "No connect.", 45 NC "No connect.", 47 NC "No connect.", 58 NC "No connect.", 62 NC "No connect.", 63 NC "No connect."